# Altium schematic symbol library LM7805.SchLib: 1 symbol
Pins are listed as number, name and electrical type; pins without a type are passive.

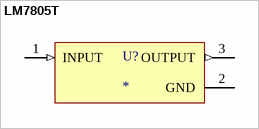
[diagram p0: symbol LM7805T]

## LM7805T
designator U?
3-Terminal 1.5A Positive Fixed Voltage Regulator; MF: TAEJIN; MP: LM7805T; SnapEDA_Link: https://www.snapeda.com/parts/LM7805T/TAEJIN/view-part/?ref=snap; Package: TO-220-3 TAEJIN; Value: *; Check_prices: https://www.snapeda.com/parts/LM7805T/TAEJIN/view-part/?ref=eda
footprint TO254P1011X457X1950-3
pins: 1 INPUT (in), 2 GND (power), 3 OUTPUT (out)